# Altium schematic symbol library RESISTOR.SchLib: 32 symbols
Pins are listed as number, name and electrical type; pins without a type are passive.

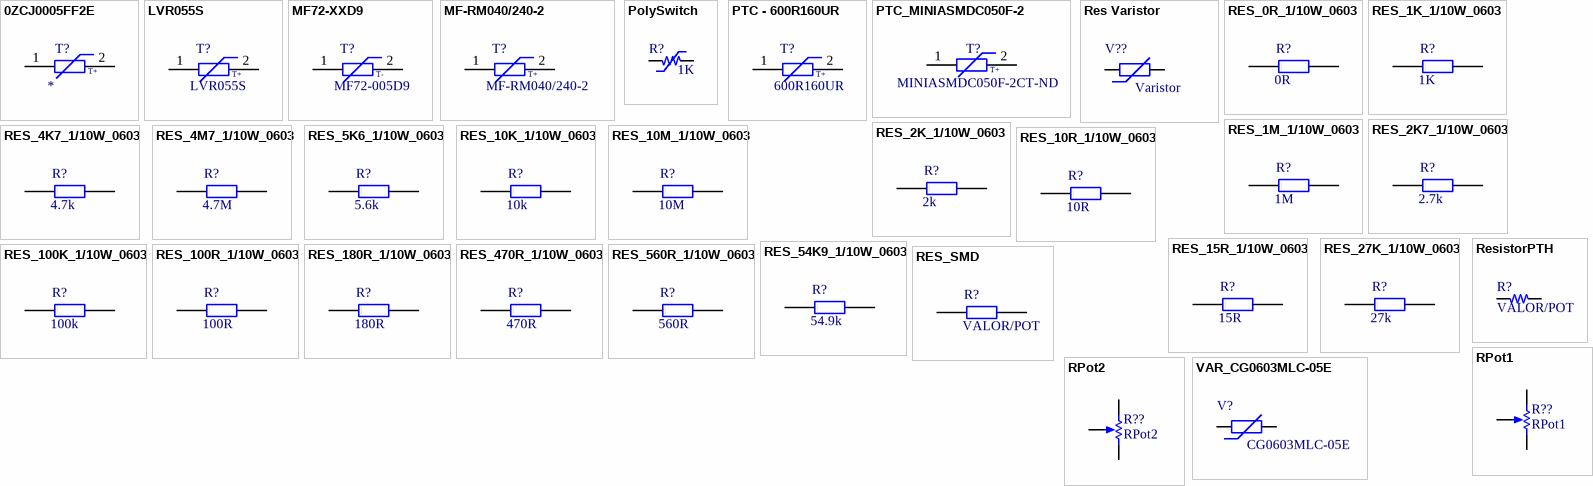
[diagram p0: symbols 0ZCJ0005FF2E to VAR_CG0603MLC-05E]

## 0ZCJ0005FF2E
designator T?
PTC Resettable Fuse 0.05A(hold) 0.15A(trip) 60VDC 10A 0.4W 1.5s 3.6Ohm SMD Solder Pad 3.5 X 1.8 X 0.85mm T/R; Manufacturer: Bel; Manufacturer Part Number: 0ZCJ0005FF2E; Max Voltage Rating (DC): 60V; Hold Current: 50mA; Power Dissipation: 400mW; Trip Current: 150mA; Approvals: UL,TUV; Supplier 1: Digi-Key; Supplier Part Number 1: 507-1793-1-ND; Stock 1: 259520; Pricing 1: 1=0,13000, 5=0,13000, 10=0,12500, 50=0,11140, 100=0,10370, 250=0,09216, 500=0,07680, 1000=0,07296 (USD); RoHS: Yes; Mount: Surface Mount; Case/Package: 1206; Case Code (Metric): 3216; Contact Plating: Tin,Matte; Number of Terminals: 2; Case Code (Imperial): 1206; Min Operating Temperature: -40°C; Max Operating Temperature: 85°C; Package Quantity: 1; Packaging: Tape and Reel; Max Current Rating: 10A; Time to Trip: 1.5s; Lead Free: Lead Free; ComponentLink1URL: https://datasheet.ciiva.com/18550/0zcj-18550517.pdf?src-supplier=Digi-Key; ComponentLink1Description: https://datasheet.ciiva.com/18550/0zcj-18550517.pdf?src-supplier=Digi-Key; ComponentLink2URL: https://datasheet.ciiva.com/18550/0zcj-18550518.pdf?src-supplier=Digi-Key; ComponentLink2Description: https://datasheet.ciiva.com/18550/0zcj-18550518.pdf?src-supplier=Digi-Key; ComponentLink3URL: https://datasheet.ciiva.com/18550/0zcj-18550519.pdf?src-supplier=Digi-Key; ComponentLink3Description: https://datasheet.ciiva.com/18550/0zcj-18550519.pdf?src-supplier=Digi-Key
pins: 1, 2
text: T+

## LVR055S
designator T?
PTC Resettable Fuse 0.55A(hold) 1.25A(trip) 240V 1A 3.4W 26s 0.45Ohm Radial 14 X 4.1 X 21.7mm; Fabricante: Littelfuse; Value: 0.55A; MPN: LVR055S; Footprint: PTH RADIAL 2 PIN; ComponentLink1Description: datasheet; ComponentLink1URL: https://www.littelfuse.com/~/media/electronics/product_specifications/resettable_ptcs/littelfuse_ptc_lvr055s_product_specification.pdf.pdf; ComponentLink2Description: loja; ComponentLink2URL: https://www.digikey.com/product-detail/en/littelfuse-inc/LVR055S/LVR055S-ND/1113509
footprint LVR055S_PTH (Radial 14 X 4.1 X 21.7mm)
pins: 1, 2
text: T+

## MF72-XXD9
designator T?, comment MF72-005D9
NTC - Inrush Current Limiter X Ohms ±20% XA 0.433" (11mm); Value: VALOR; Fabricante: Cantherm; MPN: MF72-005D9; Footprint: PTH RADIAL 2 PIN; ComponentLink1Description: datasheet; ComponentLink1URL: https://www.cantherm.com/wp-content/uploads/2018/08/MF72_AUG_2018.pdf
footprint MF72-XXXD9 (Radial 11 X 7.50mm)
pins: 1, 2
text: T-

## MF-RM040/240-2
designator T?
PTC RESET FUSE 240V 400MA RADIAL; Value: 0.40A; Fabricante: BOURNS; MPN: MF-RM040/240-2; Footprint: PTH RADIAL 2 PIN; ComponentLink1Description: LOJA; ComponentLink1URL: https://www.digikey.com/product-detail/en/bourns-inc/MF-RM040-240-2/MF-RM040-240-2CT-ND/3594931; ComponentLink2Description: DATASHEET; ComponentLink2URL: https://www.bourns.com/docs/Product-Datasheets/MF-RM.pdf
footprint MF-RM040/240 - PTC (Radial 11.5 X 3.8 X 20.9mm)
pins: 1, 2
text: T+

## PolySwitch
designator R?, comment 1K
PolySwitch
footprint RAD-0.4
pins: 1, 2

## PTC - 600R160UR
designator T?, comment 600R160UR
Fusíveis rearmáveis - PPTC PTC 60V/600V.160A POLY TELECOM; Value: 600V / 3A; Fabricante: Littelfuse; MPN: 600R160UR; Footprint: PTH RADIAL 2 PIN; ComponentLink1Description: datasheet; ComponentLink1URL: https://br.mouser.com/datasheet/2/240/Littelfuse_PTC_600R_Datasheet_pdf-461626.pdf; ComponentLink2Description: loja; ComponentLink2URL: https://br.mouser.com/ProductDetail/Littelfuse/600R160UR/?qs=aZoEvtLPFVfuHKKd6wLj7A%3D%3D
footprint PTC - 600R160UR (Fusíveis rearmáveis - PPTC PTC 60V/600V.160A POLY TELECOM)
pins: 1, 2
text: T+

## PTC_MINIASMDC050F-2
designator T?, comment MINIASMDC050F-2CT-ND
PTC RESET FUSE 24V 500MA 1812; Manufacturer: Littelfuse; Max Current Rating: 100A; Trip Current: 1A; Time to Trip: 150ms; Supplier 1: Digi-Key; Manufacturer Part Number: MINIASMDC050F-2; RoHS: Yes; Category: PTC Resettable Fuses; Stock 1: 680; Pricing 1: 1=0,51000, 5=0,50000, 10=0,48400, 50=0,40740, 100=0,33810, 250=0,30740, 500=0,26128, 1000=0,23055 (USD); Mount: Surface Mount; Case Code (Imperial): 1812; Case Code (Metric): 4532; Min Operating Temperature: -40°C; Max Operating Temperature: 85°C; Packaging: Tape and Reel; Hold Current: 500mA; Ratings: AEC-Q200; RoHS Compliant: Yes; ComponentLink1URL: http://www.farnell.com/datasheets/2280607.pdf?src-supplier=Farnell; ComponentLink1Description: http://www.farnell.com/datasheets/2280607.pdf?src-supplier=Farnell; ComponentLink2URL: http://www.farnell.com/datasheets/1500812.pdf?src-supplier=Newark; ComponentLink2Description: http://www.farnell.com/datasheets/1500812.pdf?src-supplier=Newark; ComponentLink3URL: https://www.littelfuse.com/~/media/electronics/product_specifications/resettable_ptcs/littelfuse_ptc_miniasmdc050f_2_product_specification.pdf.pdf?src-supplier=Digi-Key; ComponentLink3Description: https://www.littelfuse.com/~/media/electronics/product_specifications/resettable_ptcs/littelfuse_ptc_miniasmdc050f_2_product_specification.pdf.pdf?src-supplier=Digi-Key; ComponentLink4URL: http://www.littelfuse.com/~/media/electronics/product_specifications/resettable_ptcs/littelfuse_ptc_miniasmdc050f_2_product_specification.pdf.pdf?src-supplier=Digi-Key; ComponentLink4Description: http://www.littelfuse.com/~/media/electronics/product_specifications/resettable_ptcs/littelfuse_ptc_miniasmdc050f_2_product_specification.pdf.pdf?src-supplier=Digi-Key
pins: 1, 2
text: T+

## Res Varistor
designator V??, comment Varistor
Varistor (Voltage-Sensitive Resistor); Published: 24-Mar-1999; LatestRevisionDate: 04-Mar-2005; LatestRevisionNote: PCB Footprint replaced.; PackageReference: 6-0805; Publisher: Altium Limited
footprint RAD-0.4 - Varistor
footprint RAD-0.4 - Varistor Horizontal
pins: 1, 2

## RES_0R_1/10W_0603
designator R?, comment 0R
RES SMD; Potência: 1/10W; MPN: *; Footprint: 0603; Fabricante: *; Value: 0R
footprint SMD-0805 (Chip Resistor; Body 2 x 1.3 mm (LxW typ))
footprint SMD-0603 (Chip Resistor; Body 1.6 x 0.8 mm (LxW typ))
footprint SMD-0402 (Chip Resistor; Body 1 x 0.5 mm (LxW typ))
footprint SMD-1206 (Chip Resistor, 2-Leads, Body 3,15x1,55mm, IPC Medium Density)
footprint SMD-1210 (Chip Resistor, 2-Leads, Body 3,15x2,50mm, IPC Medium Density)
footprint SMD-2010 (Chip Resistor, 2-Leads, Body 5,00x2,50mm, IPC Medium Density)
footprint SMD-2512 (Chip Resistor, 2-Leads, Body 6,30x3,20mm, IPC Medium Density)
footprint CMA0204-MINIMELF (MELF Resistor, 2-Leads, Body 3,60x1,40mm, IPC Medium Density)
pins: 1, 2

## RES_1K_1/10W_0603
designator R?, comment 1K
RES SMD; Potência: 1/10W; MPN: *; Footprint: 0603; Fabricante: *; Value: 1K; Supplier 1: Digi-Key; Supplier Part Number 1: 541-2987-1-ND
footprint SMD-0805 (Chip Resistor; Body 2 x 1.3 mm (LxW typ))
footprint SMD-0603 (Chip Resistor; Body 1.6 x 0.8 mm (LxW typ))
footprint SMD-0402 (Chip Resistor; Body 1 x 0.5 mm (LxW typ))
footprint SMD-1206 (Chip Resistor, 2-Leads, Body 3,15x1,55mm, IPC Medium Density)
footprint SMD-1210 (Chip Resistor, 2-Leads, Body 3,15x2,50mm, IPC Medium Density)
footprint SMD-2010 (Chip Resistor, 2-Leads, Body 5,00x2,50mm, IPC Medium Density)
footprint SMD-2512 (Chip Resistor, 2-Leads, Body 6,30x3,20mm, IPC Medium Density)
footprint CMA0204-MINIMELF (MELF Resistor, 2-Leads, Body 3,60x1,40mm, IPC Medium Density)
pins: 1, 2

## RES_1M_1/10W_0603
designator R?, comment 1M
RES SMD; Potência: 1/10W; MPN: *; Footprint: 0603; Fabricante: *; Value: 1M; Supplier 1: Digi-Key; Supplier Part Number 1: 541-2210-2-ND
footprint SMD-0805 (Chip Resistor; Body 2 x 1.3 mm (LxW typ))
footprint SMD-0603 (Chip Resistor; Body 1.6 x 0.8 mm (LxW typ))
footprint SMD-0402 (Chip Resistor; Body 1 x 0.5 mm (LxW typ))
footprint SMD-1206 (Chip Resistor, 2-Leads, Body 3,15x1,55mm, IPC Medium Density)
footprint SMD-1210 (Chip Resistor, 2-Leads, Body 3,15x2,50mm, IPC Medium Density)
footprint SMD-2010 (Chip Resistor, 2-Leads, Body 5,00x2,50mm, IPC Medium Density)
footprint SMD-2512 (Chip Resistor, 2-Leads, Body 6,30x3,20mm, IPC Medium Density)
footprint CMA0204-MINIMELF (MELF Resistor, 2-Leads, Body 3,60x1,40mm, IPC Medium Density)
pins: 1, 2

## RES_2K7_1/10W_0603
designator R?, comment 2.7k
RES SMD; Potência: 1/10W; MPN: *; Footprint: 0603; Fabricante: *; Value: 2.7k; Supplier 1: RSComponents; Supplier Part Number 1: 6790153
footprint SMD-0805 (Chip Resistor; Body 2 x 1.3 mm (LxW typ))
footprint SMD-0603 (Chip Resistor; Body 1.6 x 0.8 mm (LxW typ))
footprint SMD-0402 (Chip Resistor; Body 1 x 0.5 mm (LxW typ))
footprint SMD-1206 (Chip Resistor, 2-Leads, Body 3,15x1,55mm, IPC Medium Density)
footprint SMD-1210 (Chip Resistor, 2-Leads, Body 3,15x2,50mm, IPC Medium Density)
footprint SMD-2010 (Chip Resistor, 2-Leads, Body 5,00x2,50mm, IPC Medium Density)
footprint SMD-2512 (Chip Resistor, 2-Leads, Body 6,30x3,20mm, IPC Medium Density)
footprint CMA0204-MINIMELF (MELF Resistor, 2-Leads, Body 3,60x1,40mm, IPC Medium Density)
pins: 1, 2

## RES_2K_1/10W_0603
designator R?, comment 2k
RES SMD; Potência: 1/10W; MPN: *; Footprint: 0603; Fabricante: *; Value: 2k; Supplier 1: Newark; Supplier Part Number 1: 52K8224
footprint SMD-0805 (Chip Resistor; Body 2 x 1.3 mm (LxW typ))
footprint SMD-0603 (Chip Resistor; Body 1.6 x 0.8 mm (LxW typ))
footprint SMD-0402 (Chip Resistor; Body 1 x 0.5 mm (LxW typ))
footprint SMD-1206 (Chip Resistor, 2-Leads, Body 3,15x1,55mm, IPC Medium Density)
footprint SMD-1210 (Chip Resistor, 2-Leads, Body 3,15x2,50mm, IPC Medium Density)
footprint SMD-2010 (Chip Resistor, 2-Leads, Body 5,00x2,50mm, IPC Medium Density)
footprint SMD-2512 (Chip Resistor, 2-Leads, Body 6,30x3,20mm, IPC Medium Density)
footprint CMA0204-MINIMELF (MELF Resistor, 2-Leads, Body 3,60x1,40mm, IPC Medium Density)
pins: 1, 2

## RES_4K7_1/10W_0603
designator R?, comment 4.7k
RES SMD; Potência: 1/10W; MPN: *; Footprint: 0603; Fabricante: *; Value: 4.7k
footprint SMD-0805 (Chip Resistor; Body 2 x 1.3 mm (LxW typ))
footprint SMD-0603 (Chip Resistor; Body 1.6 x 0.8 mm (LxW typ))
footprint SMD-0402 (Chip Resistor; Body 1 x 0.5 mm (LxW typ))
footprint SMD-1206 (Chip Resistor, 2-Leads, Body 3,15x1,55mm, IPC Medium Density)
footprint SMD-1210 (Chip Resistor, 2-Leads, Body 3,15x2,50mm, IPC Medium Density)
footprint SMD-2010 (Chip Resistor, 2-Leads, Body 5,00x2,50mm, IPC Medium Density)
footprint SMD-2512 (Chip Resistor, 2-Leads, Body 6,30x3,20mm, IPC Medium Density)
footprint CMA0204-MINIMELF (MELF Resistor, 2-Leads, Body 3,60x1,40mm, IPC Medium Density)
pins: 1, 2

## RES_4M7_1/10W_0603
designator R?, comment 4.7M
RES SMD; Potência: 1/10W; MPN: *; Footprint: 0603; Fabricante: *; value: 4.7M
footprint SMD-0805 (Chip Resistor; Body 2 x 1.3 mm (LxW typ))
footprint SMD-0603 (Chip Resistor; Body 1.6 x 0.8 mm (LxW typ))
footprint SMD-0402 (Chip Resistor; Body 1 x 0.5 mm (LxW typ))
footprint SMD-1206 (Chip Resistor, 2-Leads, Body 3,15x1,55mm, IPC Medium Density)
footprint SMD-1210 (Chip Resistor, 2-Leads, Body 3,15x2,50mm, IPC Medium Density)
footprint SMD-2010 (Chip Resistor, 2-Leads, Body 5,00x2,50mm, IPC Medium Density)
footprint SMD-2512 (Chip Resistor, 2-Leads, Body 6,30x3,20mm, IPC Medium Density)
footprint CMA0204-MINIMELF (MELF Resistor, 2-Leads, Body 3,60x1,40mm, IPC Medium Density)
pins: 1, 2

## RES_5K6_1/10W_0603
designator R?, comment 5.6k
RES SMD; Potência: 1/10W; MPN: *; Footprint: 0603; Fabricante: *; Value: 5.6k
footprint SMD-0805 (Chip Resistor; Body 2 x 1.3 mm (LxW typ))
footprint SMD-0603 (Chip Resistor; Body 1.6 x 0.8 mm (LxW typ))
footprint SMD-0402 (Chip Resistor; Body 1 x 0.5 mm (LxW typ))
footprint SMD-1206 (Chip Resistor, 2-Leads, Body 3,15x1,55mm, IPC Medium Density)
footprint SMD-1210 (Chip Resistor, 2-Leads, Body 3,15x2,50mm, IPC Medium Density)
footprint SMD-2010 (Chip Resistor, 2-Leads, Body 5,00x2,50mm, IPC Medium Density)
footprint SMD-2512 (Chip Resistor, 2-Leads, Body 6,30x3,20mm, IPC Medium Density)
footprint CMA0204-MINIMELF (MELF Resistor, 2-Leads, Body 3,60x1,40mm, IPC Medium Density)
pins: 1, 2

## RES_10K_1/10W_0603
designator R?, comment 10k
RES SMD; Potência: 1/10W; MPN: *; Footprint: 0603; Fabricante: *; value: 10k
footprint SMD-0805 (Chip Resistor; Body 2 x 1.3 mm (LxW typ))
footprint SMD-0603 (Chip Resistor; Body 1.6 x 0.8 mm (LxW typ))
footprint SMD-0402 (Chip Resistor; Body 1 x 0.5 mm (LxW typ))
footprint SMD-1206 (Chip Resistor, 2-Leads, Body 3,15x1,55mm, IPC Medium Density)
footprint SMD-1210 (Chip Resistor, 2-Leads, Body 3,15x2,50mm, IPC Medium Density)
footprint SMD-2010 (Chip Resistor, 2-Leads, Body 5,00x2,50mm, IPC Medium Density)
footprint SMD-2512 (Chip Resistor, 2-Leads, Body 6,30x3,20mm, IPC Medium Density)
footprint CMA0204-MINIMELF (MELF Resistor, 2-Leads, Body 3,60x1,40mm, IPC Medium Density)
pins: 1, 2

## RES_10M_1/10W_0603
designator R?, comment 10M
RES SMD; Potência: 1/10W; MPN: *; Footprint: 0603; Fabricante: *; Value: 10M
footprint SMD-0805 (Chip Resistor; Body 2 x 1.3 mm (LxW typ))
footprint SMD-0603 (Chip Resistor; Body 1.6 x 0.8 mm (LxW typ))
footprint SMD-0402 (Chip Resistor; Body 1 x 0.5 mm (LxW typ))
footprint SMD-1206 (Chip Resistor, 2-Leads, Body 3,15x1,55mm, IPC Medium Density)
footprint SMD-1210 (Chip Resistor, 2-Leads, Body 3,15x2,50mm, IPC Medium Density)
footprint SMD-2010 (Chip Resistor, 2-Leads, Body 5,00x2,50mm, IPC Medium Density)
footprint SMD-2512 (Chip Resistor, 2-Leads, Body 6,30x3,20mm, IPC Medium Density)
footprint CMA0204-MINIMELF (MELF Resistor, 2-Leads, Body 3,60x1,40mm, IPC Medium Density)
pins: 1, 2

## RES_10R_1/10W_0603
designator R?, comment 10R
RES SMD; Potência: 1/10W; MPN: *; Footprint: 0603; Fabricante: *; value: 10R
footprint SMD-0805 (Chip Resistor; Body 2 x 1.3 mm (LxW typ))
footprint SMD-0603 (Chip Resistor; Body 1.6 x 0.8 mm (LxW typ))
footprint SMD-0402 (Chip Resistor; Body 1 x 0.5 mm (LxW typ))
footprint SMD-1206 (Chip Resistor, 2-Leads, Body 3,15x1,55mm, IPC Medium Density)
footprint SMD-1210 (Chip Resistor, 2-Leads, Body 3,15x2,50mm, IPC Medium Density)
footprint SMD-2010 (Chip Resistor, 2-Leads, Body 5,00x2,50mm, IPC Medium Density)
footprint SMD-2512 (Chip Resistor, 2-Leads, Body 6,30x3,20mm, IPC Medium Density)
footprint CMA0204-MINIMELF (MELF Resistor, 2-Leads, Body 3,60x1,40mm, IPC Medium Density)
pins: 1, 2

## RES_15R_1/10W_0603
designator R?, comment 15R
RES SMD; Potência: 1/10W; MPN: *; Footprint: 0603; Fabricante: *; Value: 15R
footprint SMD-0805 (Chip Resistor; Body 2 x 1.3 mm (LxW typ))
footprint SMD-0603 (Chip Resistor; Body 1.6 x 0.8 mm (LxW typ))
footprint SMD-0402 (Chip Resistor; Body 1 x 0.5 mm (LxW typ))
footprint SMD-1206 (Chip Resistor, 2-Leads, Body 3,15x1,55mm, IPC Medium Density)
footprint SMD-1210 (Chip Resistor, 2-Leads, Body 3,15x2,50mm, IPC Medium Density)
footprint SMD-2010 (Chip Resistor, 2-Leads, Body 5,00x2,50mm, IPC Medium Density)
footprint SMD-2512 (Chip Resistor, 2-Leads, Body 6,30x3,20mm, IPC Medium Density)
footprint CMA0204-MINIMELF (MELF Resistor, 2-Leads, Body 3,60x1,40mm, IPC Medium Density)
pins: 1, 2

## RES_27K_1/10W_0603
designator R?, comment 27k
RES SMD; Potência: 1/10W; MPN: *; Footprint: 0603; Fabricante: *; value: 27k; Supplier 1: Newark; Supplier Part Number 1: 24W2829
footprint SMD-0805 (Chip Resistor; Body 2 x 1.3 mm (LxW typ))
footprint SMD-0603 (Chip Resistor; Body 1.6 x 0.8 mm (LxW typ))
footprint SMD-0402 (Chip Resistor; Body 1 x 0.5 mm (LxW typ))
footprint SMD-1206 (Chip Resistor, 2-Leads, Body 3,15x1,55mm, IPC Medium Density)
footprint SMD-1210 (Chip Resistor, 2-Leads, Body 3,15x2,50mm, IPC Medium Density)
footprint SMD-2010 (Chip Resistor, 2-Leads, Body 5,00x2,50mm, IPC Medium Density)
footprint SMD-2512 (Chip Resistor, 2-Leads, Body 6,30x3,20mm, IPC Medium Density)
footprint CMA0204-MINIMELF (MELF Resistor, 2-Leads, Body 3,60x1,40mm, IPC Medium Density)
pins: 1, 2

## RES_54K9_1/10W_0603
designator R?, comment 54.9k
RES SMD; Potência: 1/10W; MPN: *; Footprint: 0603; Fabricante: *; Value: 54.9k; Supplier 1: Digi-Key; Supplier Part Number 1: 311-54.9KHRCT-ND
footprint SMD-0805 (Chip Resistor; Body 2 x 1.3 mm (LxW typ))
footprint SMD-0603 (Chip Resistor; Body 1.6 x 0.8 mm (LxW typ))
footprint SMD-0402 (Chip Resistor; Body 1 x 0.5 mm (LxW typ))
footprint SMD-1206 (Chip Resistor, 2-Leads, Body 3,15x1,55mm, IPC Medium Density)
footprint SMD-1210 (Chip Resistor, 2-Leads, Body 3,15x2,50mm, IPC Medium Density)
footprint SMD-2010 (Chip Resistor, 2-Leads, Body 5,00x2,50mm, IPC Medium Density)
footprint SMD-2512 (Chip Resistor, 2-Leads, Body 6,30x3,20mm, IPC Medium Density)
footprint CMA0204-MINIMELF (MELF Resistor, 2-Leads, Body 3,60x1,40mm, IPC Medium Density)
pins: 1, 2

## RES_100K_1/10W_0603
designator R?, comment 100k
RES SMD; Potência: 1/10W; MPN: *; Footprint: 0603; Fabricante: *; Value: 100k
footprint SMD-0805 (Chip Resistor; Body 2 x 1.3 mm (LxW typ))
footprint SMD-0603 (Chip Resistor; Body 1.6 x 0.8 mm (LxW typ))
footprint SMD-0402 (Chip Resistor; Body 1 x 0.5 mm (LxW typ))
footprint SMD-1206 (Chip Resistor, 2-Leads, Body 3,15x1,55mm, IPC Medium Density)
footprint SMD-1210 (Chip Resistor, 2-Leads, Body 3,15x2,50mm, IPC Medium Density)
footprint SMD-2010 (Chip Resistor, 2-Leads, Body 5,00x2,50mm, IPC Medium Density)
footprint SMD-2512 (Chip Resistor, 2-Leads, Body 6,30x3,20mm, IPC Medium Density)
footprint CMA0204-MINIMELF (MELF Resistor, 2-Leads, Body 3,60x1,40mm, IPC Medium Density)
pins: 1, 2

## RES_100R_1/10W_0603
designator R?, comment 100R
RES SMD; Potência: 1/10W; MPN: *; Footprint: 0603; Fabricante: *; Value: 100R
footprint SMD-0805 (Chip Resistor; Body 2 x 1.3 mm (LxW typ))
footprint SMD-0603 (Chip Resistor; Body 1.6 x 0.8 mm (LxW typ))
footprint SMD-0402 (Chip Resistor; Body 1 x 0.5 mm (LxW typ))
footprint SMD-1206 (Chip Resistor, 2-Leads, Body 3,15x1,55mm, IPC Medium Density)
footprint SMD-1210 (Chip Resistor, 2-Leads, Body 3,15x2,50mm, IPC Medium Density)
footprint SMD-2010 (Chip Resistor, 2-Leads, Body 5,00x2,50mm, IPC Medium Density)
footprint SMD-2512 (Chip Resistor, 2-Leads, Body 6,30x3,20mm, IPC Medium Density)
footprint CMA0204-MINIMELF (MELF Resistor, 2-Leads, Body 3,60x1,40mm, IPC Medium Density)
pins: 1, 2

## RES_180R_1/10W_0603
designator R?, comment 180R
RES SMD; Potência: 1/10W; MPN: *; Footprint: 0603; Fabricante: *; Value: 180R
footprint SMD-0805 (Chip Resistor; Body 2 x 1.3 mm (LxW typ))
footprint SMD-0603 (Chip Resistor; Body 1.6 x 0.8 mm (LxW typ))
footprint SMD-0402 (Chip Resistor; Body 1 x 0.5 mm (LxW typ))
footprint SMD-1206 (Chip Resistor, 2-Leads, Body 3,15x1,55mm, IPC Medium Density)
footprint SMD-1210 (Chip Resistor, 2-Leads, Body 3,15x2,50mm, IPC Medium Density)
footprint SMD-2010 (Chip Resistor, 2-Leads, Body 5,00x2,50mm, IPC Medium Density)
footprint SMD-2512 (Chip Resistor, 2-Leads, Body 6,30x3,20mm, IPC Medium Density)
footprint CMA0204-MINIMELF (MELF Resistor, 2-Leads, Body 3,60x1,40mm, IPC Medium Density)
pins: 1, 2

## RES_470R_1/10W_0603
designator R?, comment 470R
RES SMD; Potência: 1/10W; MPN: *; Footprint: 0603; Fabricante: *; Value: 470R
footprint SMD-0805 (Chip Resistor; Body 2 x 1.3 mm (LxW typ))
footprint SMD-0603 (Chip Resistor; Body 1.6 x 0.8 mm (LxW typ))
footprint SMD-0402 (Chip Resistor; Body 1 x 0.5 mm (LxW typ))
footprint SMD-1206 (Chip Resistor, 2-Leads, Body 3,15x1,55mm, IPC Medium Density)
footprint SMD-1210 (Chip Resistor, 2-Leads, Body 3,15x2,50mm, IPC Medium Density)
footprint SMD-2010 (Chip Resistor, 2-Leads, Body 5,00x2,50mm, IPC Medium Density)
footprint SMD-2512 (Chip Resistor, 2-Leads, Body 6,30x3,20mm, IPC Medium Density)
footprint CMA0204-MINIMELF (MELF Resistor, 2-Leads, Body 3,60x1,40mm, IPC Medium Density)
pins: 1, 2

## RES_560R_1/10W_0603
designator R?, comment 560R
RES SMD; Potência: 1/10W; MPN: *; Footprint: 0603; Fabricante: *; value: 560R
footprint SMD-0805 (Chip Resistor; Body 2 x 1.3 mm (LxW typ))
footprint SMD-0603 (Chip Resistor; Body 1.6 x 0.8 mm (LxW typ))
footprint SMD-0402 (Chip Resistor; Body 1 x 0.5 mm (LxW typ))
footprint SMD-1206 (Chip Resistor, 2-Leads, Body 3,15x1,55mm, IPC Medium Density)
footprint SMD-1210 (Chip Resistor, 2-Leads, Body 3,15x2,50mm, IPC Medium Density)
footprint SMD-2010 (Chip Resistor, 2-Leads, Body 5,00x2,50mm, IPC Medium Density)
footprint SMD-2512 (Chip Resistor, 2-Leads, Body 6,30x3,20mm, IPC Medium Density)
footprint CMA0204-MINIMELF (MELF Resistor, 2-Leads, Body 3,60x1,40mm, IPC Medium Density)
pins: 1, 2

## RES_SMD
designator R?, comment VALOR/POT
RES SMD; MPN: *; Footprint: *; Fabricante: *; value: VALOR/POT
footprint SMD-0805 (Chip Resistor; Body 2 x 1.3 mm (LxW typ))
footprint SMD-0603 (Chip Resistor; Body 1.6 x 0.8 mm (LxW typ))
footprint SMD-0402 (Chip Resistor; Body 1 x 0.5 mm (LxW typ))
footprint SMD-1206 (Chip Resistor, 2-Leads, Body 3,15x1,55mm, IPC Medium Density)
footprint SMD-1210 (Chip Resistor, 2-Leads, Body 3,15x2,50mm, IPC Medium Density)
footprint SMD-2010 (Chip Resistor, 2-Leads, Body 5,00x2,50mm, IPC Medium Density)
footprint SMD-2512 (Chip Resistor, 2-Leads, Body 6,30x3,20mm, IPC Medium Density)
footprint CMA0204-MINIMELF (MELF Resistor, 2-Leads, Body 3,60x1,40mm, IPC Medium Density)
pins: 1, 2

## ResistorPTH
designator R?, comment VALOR/POT
Resistor; value: VALOR/POT; Footprint: *; MPN: *; Fabricante: *
footprint AXIAL-04
footprint AXIAL-0.3 (Resistor; 2 Leads)
footprint AXIAL-0.9 (Magnetic-Core Inductor; 2 Leads)
footprint AXIAL-0.8
footprint AXIAL_VR37 (RESISTOR PTH 0.5W MODELO VR7_PITCH 12.7mm)
pins: 1, 2

## RPot1
designator R??
Potentiometer
footprint VR3_T18 (Tapped Resistor; 3 Leads)
pins: 1 TOP, 2 BOT, 3 TAP
1 alternate drawing of the same symbol

## RPot2
designator R??
Potentiometer
footprint VR5_T63 (Potentiometer; 3 Leads)
pins: 1 TOP, 2 BOT, 3 TAP
1 alternate drawing of the same symbol

## VAR_CG0603MLC-05E
designator V?, comment CG0603MLC-05E
Varistor 1 Circuit Surface Mount, MLCV 0603 (1608 Metric); Fabricante: Bourns; Value: CG0603MLC-05E; Footprint: SMD 0603; MPN: CG0603MLC-05E; ComponentLink1Description: LOJA; ComponentLink1URL: https://www.digikey.com/product-detail/en/bourns-inc/CG0603MLC-05E/CG0603MLC-05ECT-ND/3438061; ComponentLink2Description: DATASHEET; ComponentLink2URL: https://www.bourns.com/docs/Product-Datasheets/MLC.pdf
footprint VAR_SMD0603 (VARISTOR SMD, 2-Leads, Body 1,60x0,80mm, IPC Medium Density)
pins: 1, 2